# EAGLE library part VND5E006ASPTR-E (library RoboJackets-PowerICs)
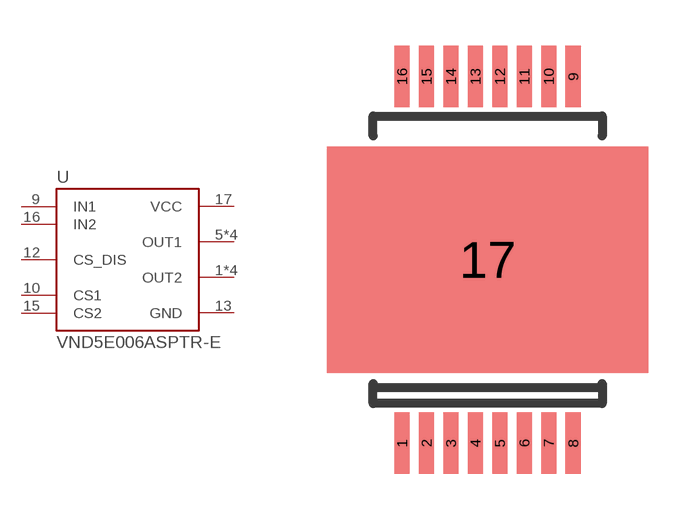
[diagram p11: symbol with the pads of POWERSO-16; footprint POWERSO-16]

Designator prefix U

## VND5E006ASPTR-E (DIGIKEY: 497-11623-1-ND; MPN: VND5E006ASPTR-E)  [POWERSO-16]
1  OUT2
2  OUT2
3  OUT2
4  OUT2
5  OUT1
6  OUT1
7  OUT1
8  OUT1
9  IN1
10  CS1
12  CS_DIS
13  GND
15  CS2
16  IN2
17  VCC

## Footprint POWERSO-16 (pad centres in mm)
smd 0.5 x 2: 1 -2.8,-6; 2 -2,-6; 3 -1.2,-6; 4 -0.4,-6; 5 0.4,-6; 6 1.2,-6; 7 2,-6; 8 2.8,-6; 9 2.8,6; 10 2,6; 11 1.2,6; 12 0.4,6; 13 -0.4,6; 14 -1.2,6; 15 -2,6; 16 -2.8,6
smd 10.5 x 7.4: 17 0,0